# Altium footprint library YYB_V1.PcbLib: 19 footprints (part 2 of 2)
Each footprint in its own frame and in the unit in brackets; x right, y up, seen from the top. Pads: shape width x height; smd on the part's side, far side on the other; paste and mask are expansions set on the pad; w line width, h text height; cw(c..) or ccw(c..) is an arc to the next point about the centre after c.
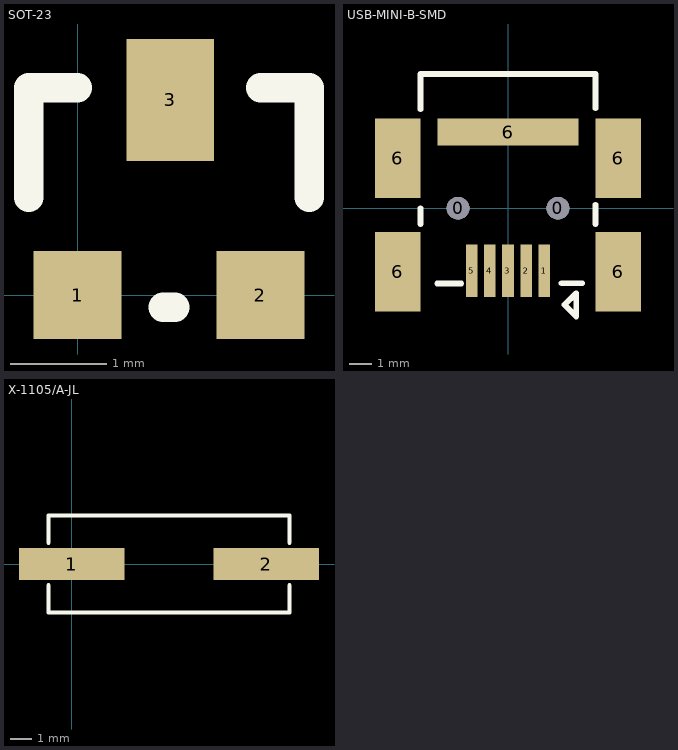
[diagram p1: the footprints below, top view; thin cyan lines are the x and y axes]

## SOT-23 [mil]
height 622.83
pads (3):
  rect 36x36 smd: 1(0,0) 2(75,0)
  rect 36x50 smd: 3(38,80)
Top Overlay:
  lines w12: -20,40 -20,85 0,85 ; 35,-5 40,-5 ; 75,85 95,85 95,40

## USB-MINI-B-SMD [mm]
height 2
pads (12):
  round 1 hole 1 unplated: 0(-2.2,0) 0(2.194,0)
  rect 0.508x2.3 smd: 1(1.597,-2.75) 2(0.797,-2.75) 3(-0.003,-2.75) 4(-0.803,-2.75) 5(-1.603,-2.75)
  rect 2x3.5 smd: 6(-4.853,-2.8) 6(-4.853,2.2) 6(4.847,-2.8) 6(4.847,2.2)
  rect 6.2x1.2 smd: 6(0,3.35)
Top Overlay:
  lines w0.254: -3.853,-0.7 -3.853,0 ; -3.853,4.35 -3.853,5.9 3.847,5.9 3.847,4.4 ; -3.113,-3.308 -2.06,-3.308 ; 2.347,-3.302 3.267,-3.302 ; 3.847,-0.7 3.847,0.15 ; 2.489,-4.253 2.997,-4.761 2.997,-3.745 2.489,-4.253

## X-1105/A-JL [mm]
height 5.06
pads (2):
  rect 5x1.5 smd: 1(0,0) 2(9.2,0)
Top Overlay:
  lines w0.203: -1.1,-1 -1.1,-2.3 10.3,-2.3 10.3,-1 ; -1.1,1 -1.1,2.3 10.3,2.3 10.3,1